# Altium footprint library MyLib.PcbLib: 105 footprints (part 1 of 7)
Each footprint in its own frame and in the unit in brackets; x right, y up, seen from the top. Pads: shape width x height; smd on the part's side, far side on the other; paste and mask are expansions set on the pad; w line width, h text height; cw(c..) or ccw(c..) is an arc to the next point about the centre after c.
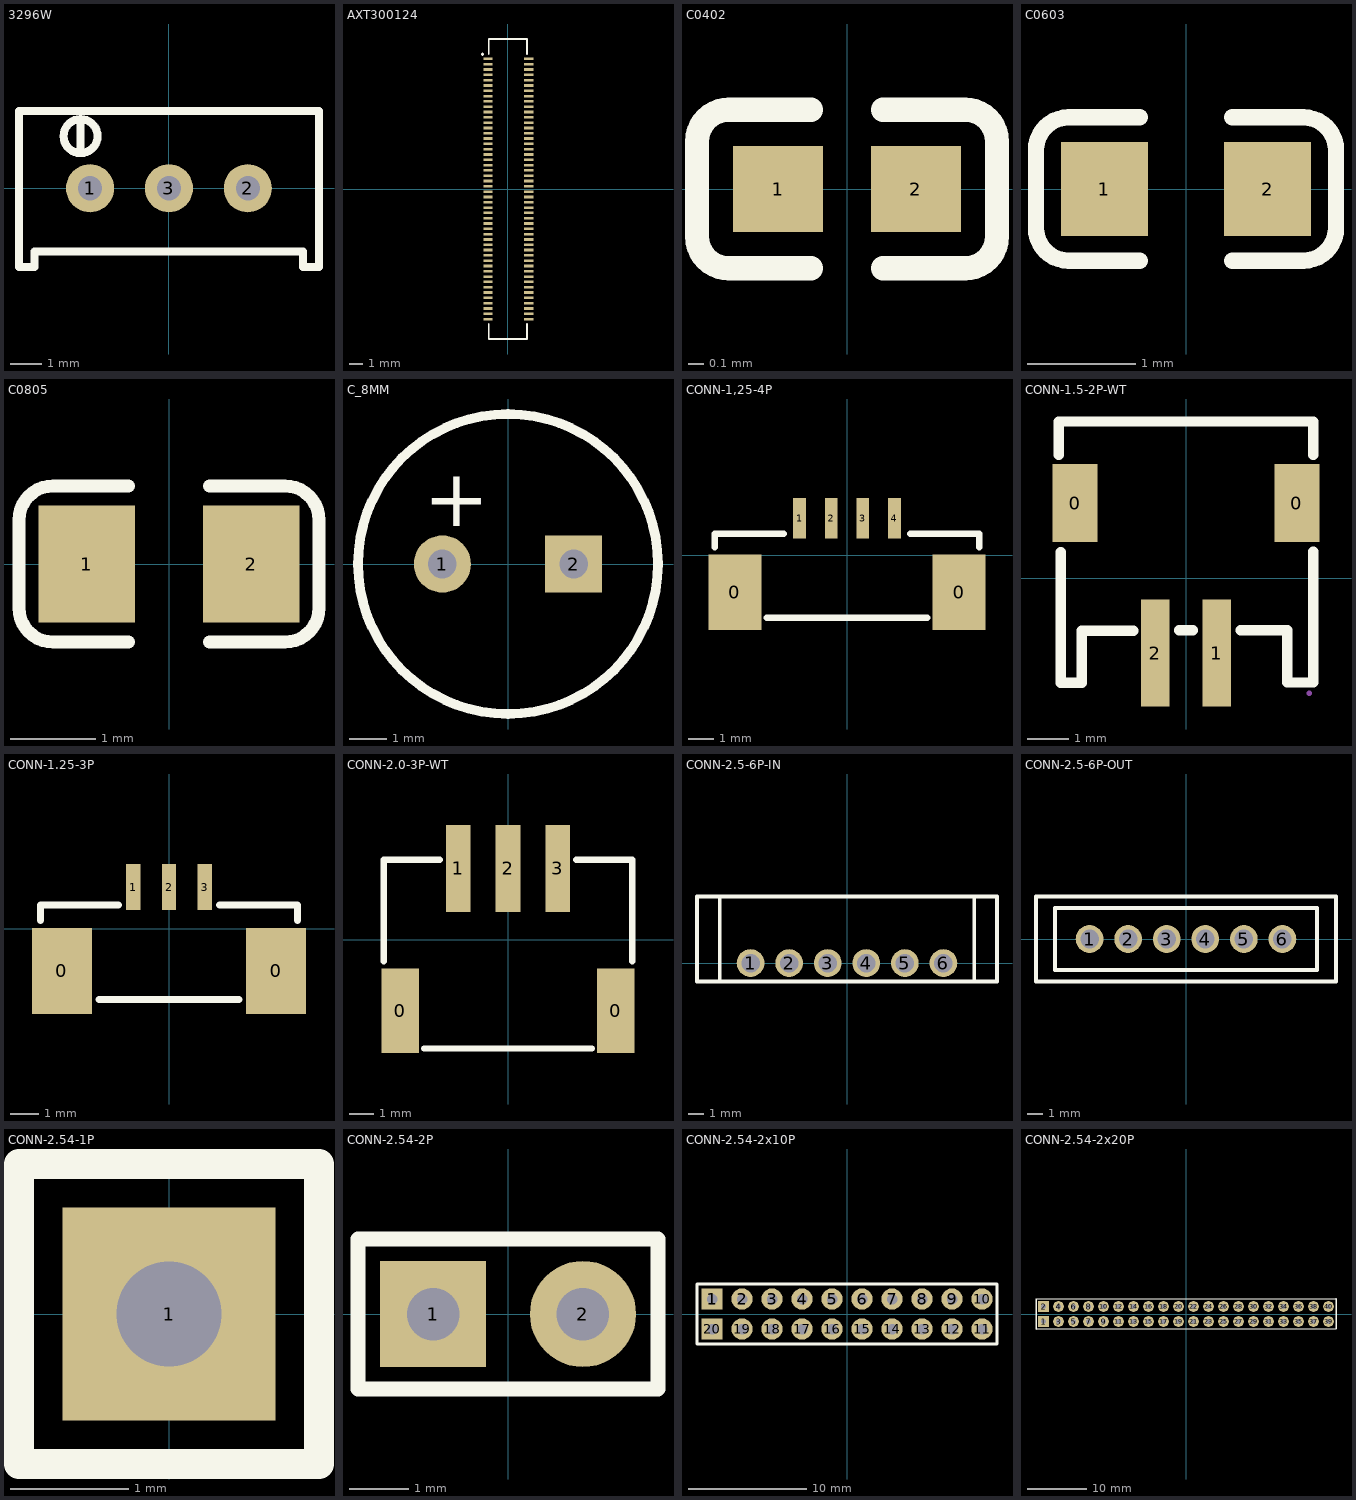
[diagram p0: the footprints below, top view; thin cyan lines are the x and y axes]

## 3296W [mil]
pads (3):
  round 60 hole 30 mask+2: 1(-98.4,0) 2(98.4,0) 3(0,0)
Top Overlay:
  lines w10: -110.4,50 -110.4,65 ; -110.4,86.2 ccw(c-110.19,64.98) -109.99,86.2 ; 187,96.5 -187,96.5 -187,-96.5 -187,-98.4 -167.5,-98.4 -167.5,-78.7 167.5,-78.7 167.5,-98.4 187.2,-98.4 187.2,-96.5 187.2,96.5 ; -110.4,65 -110.4,80 -110.4,65
Mechanical 15:
  region: 11.1,0 11.1,2.21 9.41,6.29 6.29,9.41 2.21,11.1 -2.21,11.1 -6.29,9.41 -9.41,6.29 -11.1,2.21 -11.1,0 -11.1,-2.21 -9.41,-6.29 -6.29,-9.41 -2.21,-11.1 2.21,-11.1 6.29,-9.41 9.41,-6.29 11.1,-2.21
  region: -87.3,0 -87.3,2.21 -88.99,6.29 -92.11,9.41 -96.19,11.1 -100.61,11.1 -104.69,9.41 -107.81,6.29 -109.5,2.21 -109.5,0 -109.5,-2.21 -107.81,-6.29 -104.69,-9.41 -100.61,-11.1 -96.19,-11.1 -92.11,-9.41 -88.99,-6.29 -87.3,-2.21
  region: 109.5,0 109.5,2.21 107.81,6.29 104.69,9.41 100.61,11.1 96.19,11.1 92.11,9.41 88.99,6.29 87.3,2.21 87.3,0 87.3,-2.21 88.99,-6.29 92.11,-9.41 96.19,-11.1 100.61,-11.1 104.69,-9.41 107.81,-6.29 109.5,-2.21

## AXT300124 [mm]
pads (100):
  rect 0.7x0.2 smd mask+0.102: 1(-1.5,9.8) 2(1.58,9.8) 3(-1.5,9.4) 4(1.58,9.4) 5(-1.5,9) 6(1.58,9) 7(-1.5,8.6) 8(1.58,8.6) 9(-1.5,8.2) 10(1.58,8.2) 11(-1.5,7.8) 12(1.58,7.8) 13(-1.5,7.4) 14(1.58,7.4) 15(-1.5,7) 16(1.58,7) 17(-1.5,6.6) 18(1.58,6.6) 19(-1.5,6.2) 20(1.58,6.2) 21(-1.5,5.8) 22(1.58,5.8) 23(-1.5,5.4) 24(1.58,5.4) 25(-1.5,5) 26(1.58,5) 27(-1.5,4.6) 28(1.58,4.6) 29(-1.5,4.2) 30(1.58,4.2) 31(-1.5,3.8) 32(1.58,3.8) 33(-1.5,3.4) 34(1.58,3.4) 35(-1.5,3) 36(1.58,3) 37(-1.5,2.6) 38(1.58,2.6) 39(-1.5,2.2) 40(1.58,2.2) 41(-1.5,1.8) 42(1.58,1.8) 43(-1.5,1.4) 44(1.58,1.4) 45(-1.5,1) 46(1.58,1) 47(-1.5,0.6) 48(1.58,0.6) 49(-1.5,0.2) 50(1.58,0.2) 51(-1.5,-0.2) 52(1.58,-0.2) 53(-1.5,-0.6) 54(1.58,-0.6) 55(-1.5,-1) 56(1.58,-1) 57(-1.5,-1.4) 58(1.58,-1.4) 59(-1.5,-1.8) 60(1.58,-1.8) 61(-1.5,-2.2) 62(1.58,-2.2) 63(-1.5,-2.6) 64(1.58,-2.6) 65(-1.5,-3) 66(1.58,-3) 67(-1.5,-3.4) 68(1.58,-3.4) 69(-1.5,-3.8) 70(1.58,-3.8) 71(-1.5,-4.2) 72(1.58,-4.2) 73(-1.5,-4.6) 74(1.58,-4.6) 75(-1.5,-5) 76(1.58,-5) 77(-1.5,-5.4) 78(1.58,-5.4) 79(-1.5,-5.8) 80(1.58,-5.8) 81(-1.5,-6.2) 82(1.58,-6.2) 83(-1.5,-6.6) 84(1.58,-6.6) 85(-1.5,-7) 86(1.58,-7) 87(-1.5,-7.4) 88(1.58,-7.4) 89(-1.5,-7.8) 90(1.58,-7.8) 91(-1.5,-8.2) 92(1.58,-8.2) 93(-1.5,-8.6) 94(1.58,-8.6) 95(-1.5,-9) 96(1.58,-9) 97(-1.5,-9.4) 98(1.58,-9.4) 99(-1.5,-9.8) 100(1.58,-9.8)
Top Overlay:
  lines w0.127: -1.44,-10.14 -1.44,-11.3 1.44,-11.3 1.44,-10.14 ; -1.44,10.14 -1.44,11.3 1.44,11.3 1.44,10.14
  lines w0.25: -1.911,10.149 -1.905,10.149

## C0402 [mm]
pads (2):
  rect 0.566x0.54 smd mask+0.051: 1(-0.433,0) 2(0.433,0)
Top Overlay:
  lines w0.152: -0.226,-0.499 -0.744,-0.499 cw(c-0.744,-0.299) -0.944,-0.299 -0.944,0.299 cw(c-0.744,0.299) -0.744,0.499 -0.226,0.499 ; 0.226,-0.499 0.744,-0.499 ccw(c0.744,-0.299) 0.944,-0.299 0.944,0.299 ccw(c0.744,0.299) 0.744,0.499 0.226,0.499

## C0603 [mm]
pads (2):
  rect 0.806x0.864 smd mask+0.051: 1(-0.753,0) 2(0.753,0)
Top Overlay:
  lines w0.152: -0.426,-0.661 -1.085,-0.661 cw(c-1.085,-0.361) -1.385,-0.361 -1.385,0.361 cw(c-1.085,0.361) -1.085,0.661 -0.426,0.661 ; 0.426,-0.661 1.085,-0.661 ccw(c1.085,-0.361) 1.385,-0.361 1.385,0.361 ccw(c1.085,0.361) 1.085,0.661 0.426,0.661

## C0805 [mm]
pads (2):
  rect 1.133x1.377 smd mask+0.051: 1(-0.966,0) 2(0.966,0)
Top Overlay:
  lines w0.152: -0.476,-0.917 -1.361,-0.917 cw(c-1.361,-0.517) -1.761,-0.517 -1.761,0.517 cw(c-1.361,0.517) -1.361,0.917 -0.476,0.917 ; 0.476,-0.917 1.361,-0.917 ccw(c1.361,-0.517) 1.761,-0.517 1.761,0.517 ccw(c1.361,0.517) 1.361,0.917 0.476,0.917

## C_8MM [mil]
pads (2):
  round 60 hole 30: 1(-68.9,0)
  rect 60x60 hole 30: 2(68.9,0)
Top Overlay:
  circle w10: c0,0 r157.48
  text "+" at -88.43,39.37 h60

## CONN-1,25-4P [mm]
pads (6):
  rect 2.1x3 smd mask+0.051: 0(-4.425,-1.465) 0(4.425,-1.465)
  rect 0.5x1.6 smd mask+0.051: 1(-1.875,1.465) 2(-0.625,1.465) 3(0.625,1.465) 4(1.875,1.465)
Top Overlay:
  lines w0.254: -5.219,0.306 -5.219,0.84 -2.5,0.84 ; -3.175,-2.465 3.175,-2.465 ; 2.5,0.84 5.219,0.84 5.219,0.306

## CONN-1.5-2P-WT [mm]
pads (4):
  rect 1.1x1.9 smd mask+0.102: 0(-2.7,1.825) 0(2.7,1.825)
  rect 0.7x2.6 smd mask+0.102: 1(0.75,-1.825) 2(-0.75,-1.825)
Top Overlay:
  lines w0.254: -3.096,3.006 -3.096,3.811 3.096,3.811 ; -3.048,0.635 -3.048,-2.549 -2.54,-2.549 -2.54,-1.279 -1.283,-1.279 ; -0.169,-1.27 0.169,-1.27 ; 1.331,-1.27 2.461,-1.27 2.461,-2.54 3.096,-2.54 3.096,0.644 ; 3.096,3.006 3.096,3.81
Mechanical 15:
  region: 3.06,-2.804 3.06,-2.779 3.025,-2.744 2.975,-2.744 2.94,-2.779 2.94,-2.804 2.94,-2.829 2.975,-2.864 3.025,-2.864 3.06,-2.829

## CONN-1.25-3P [mm]
pads (5):
  rect 2.1x3 smd mask+0.051: 0(-3.747,-1.465) 0(3.747,-1.465)
  rect 0.5x1.6 smd mask+0.051: 1(-1.25,1.465) 2(0,1.465) 3(1.25,1.465)
Top Overlay:
  lines w0.254: -4.497,0.306 -4.497,0.84 -1.778,0.84 ; -2.45,-2.465 2.45,-2.465 ; 1.778,0.84 4.497,0.84 4.497,0.306

## CONN-2.0-3P-WT [mm]
pads (5):
  rect 1.5x3.4 smd mask+0.051: 0(-4.34,-2.865) 0(4.34,-2.865)
  rect 1x3.5 smd mask+0.051: 1(-2,2.865) 2(0,2.865) 3(2,2.865)
Top Overlay:
  lines w0.254: -5,-0.875 -5,3.215 -2.75,3.215 ; -3.375,-4.385 3.375,-4.385 ; 2.75,3.215 5,3.215 5,-0.875

## CONN-2.5-6P-IN [mm]
pads (6):
  round 1.8 hole 1.2: 1(-6.25,0) 2(-3.75,0) 3(-1.25,0) 4(1.25,0) 5(3.75,0) 6(6.25,0)
Top Overlay:
  lines w0.254: -8.25,-1.2 -8.25,4.32 ; 8.25,-1.2 8.25,4.32 ; -9.725,-1.2 9.725,-1.2 9.725,4.32 -9.725,4.32 -9.725,-1.2

## CONN-2.5-6P-OUT [mm]
pads (6):
  round 1.8 hole 1.2: 1(-6.25,0) 2(-3.75,0) 3(-1.25,0) 4(1.25,0) 5(3.75,0) 6(6.25,0)
Top Overlay:
  lines w0.254: -9.725,-2.76 -9.725,2.76 9.725,2.76 9.725,-2.76 -9.725,-2.76 ; -8.5,-2.012 -8.5,2 8.5,2 8.5,-2.012 -8.5,-2.012

## CONN-2.54-1P [mm]
pads (1):
  rect 1.8x1.8 hole 0.889: 1(0,0)
Top Overlay:
  lines w0.254: -1.27,-1.27 1.27,-1.27 1.27,1.27 -1.27,1.27 -1.27,-1.27

## CONN-2.54-2P [mm]
pads (2):
  rect 1.8x1.8 hole 0.889: 1(-1.27,0)
  round 1.8 hole 0.889: 2(1.27,0)
Top Overlay:
  lines w0.254: -2.54,-1.27 -2.54,1.27 2.54,1.27 2.54,-1.27 -2.54,-1.27

## CONN-2.54-2x10P [mm]
pads (20):
  rect 1.8x1.8 hole 0.889: 1(-11.43,1.27) 20(-11.43,-1.27)
  round 1.8 hole 0.889: 2(-8.89,1.27) 3(-6.35,1.27) 4(-3.81,1.27) 5(-1.27,1.27) 6(1.27,1.27) 7(3.81,1.27) 8(6.35,1.27) 9(8.89,1.27) 10(11.43,1.27) 11(11.43,-1.27) 12(8.89,-1.27) 13(6.35,-1.27) 14(3.81,-1.27) 15(1.27,-1.27) 16(-1.27,-1.27) 17(-3.81,-1.27) 18(-6.35,-1.27) 19(-8.89,-1.27)
Top Overlay:
  lines w0.254: -12.7,-2.54 12.7,-2.54 12.7,2.54 -12.7,2.54 -12.7,-2.54

## CONN-2.54-2x20P [mm]
pads (40):
  rect 1.8x1.8 hole 0.889: 1(-24.13,-1.27) 2(-24.13,1.27)
  round 1.8 hole 0.889: 3(-21.59,-1.27) 4(-21.59,1.27) 5(-19.05,-1.27) 6(-19.05,1.27) 7(-16.51,-1.27) 8(-16.51,1.27) 9(-13.97,-1.27) 10(-13.97,1.27) 11(-11.43,-1.27) 12(-11.43,1.27) 13(-8.89,-1.27) 14(-8.89,1.27) 15(-6.35,-1.27) 16(-6.35,1.27) 17(-3.81,-1.27) 18(-3.81,1.27) 19(-1.27,-1.27) 20(-1.27,1.27) 21(1.27,-1.27) 22(1.27,1.27) 23(3.81,-1.27) 24(3.81,1.27) 25(6.35,-1.27) 26(6.35,1.27) 27(8.89,-1.27) 28(8.89,1.27) 29(11.43,-1.27) 30(11.43,1.27) 31(13.97,-1.27) 32(13.97,1.27) 33(16.51,-1.27) 34(16.51,1.27) 35(19.05,-1.27) 36(19.05,1.27) 37(21.59,-1.27) 38(21.59,1.27) 39(24.13,-1.27) 40(24.13,1.27)
Top Overlay:
  lines w0.254: -25.4,-2.54 25.4,-2.54 25.4,2.54 -25.4,2.54 -25.4,-2.54